# EAGLE library part LAN8720 (library LAN)
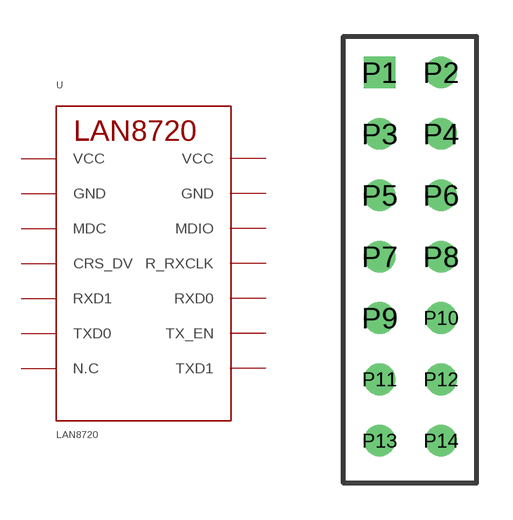
[diagram p0: symbol with the pads of 7X2; footprint 7X2]

Designator prefix U

## LAN8720  [7X2]
P1  VCC  pwr
P2  VCC  pwr
P3  GND  pwr
P4  GND  pwr
P5  MDC
P6  MDIO
P7  CRS_DV
P8  R_RXCLK
P9  RXD1
P10  RXD0
P11  TXD0
P12  TX_EN
P13  N.C  nc
P14  TXD1

## Footprint 7X2 (pad centres in mm)
drill 0.8 square: P1 0,0
drill 0.8: P2 2.54,0; P3 0,-2.54; P4 2.54,-2.54; P5 0,-5.08; P6 2.54,-5.08; P7 0,-7.62; P8 2.54,-7.62; P9 0,-10.16; P10 2.54,-10.16; P11 0,-12.7; P12 2.54,-12.7; P13 0,-15.24; P14 2.54,-15.24